# Altium schematic symbol library CL05A106MP8NUB8.SchLib: 2 symbols
Pins are listed as number, name and electrical type; pins without a type are passive.

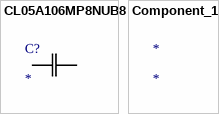
[diagram p0: symbols CL05A106MP8NUB8 to Component_1]

## CL05A106MP8NUB8
designator C?
No Description Available; Mfr_Name: Samsung
footprint CAP_CL05A106MP8NUB8_SAM
pins: 1, 2

## Component_1
designator *